# Altium footprint library Universal Device.PcbLib: 24 footprints (part 2 of 2)
Each footprint in its own frame and in the unit in brackets; x right, y up, seen from the top. Pads: shape width x height; smd on the part's side, far side on the other; paste and mask are expansions set on the pad; w line width, h text height; cw(c..) or ccw(c..) is an arc to the next point about the centre after c.
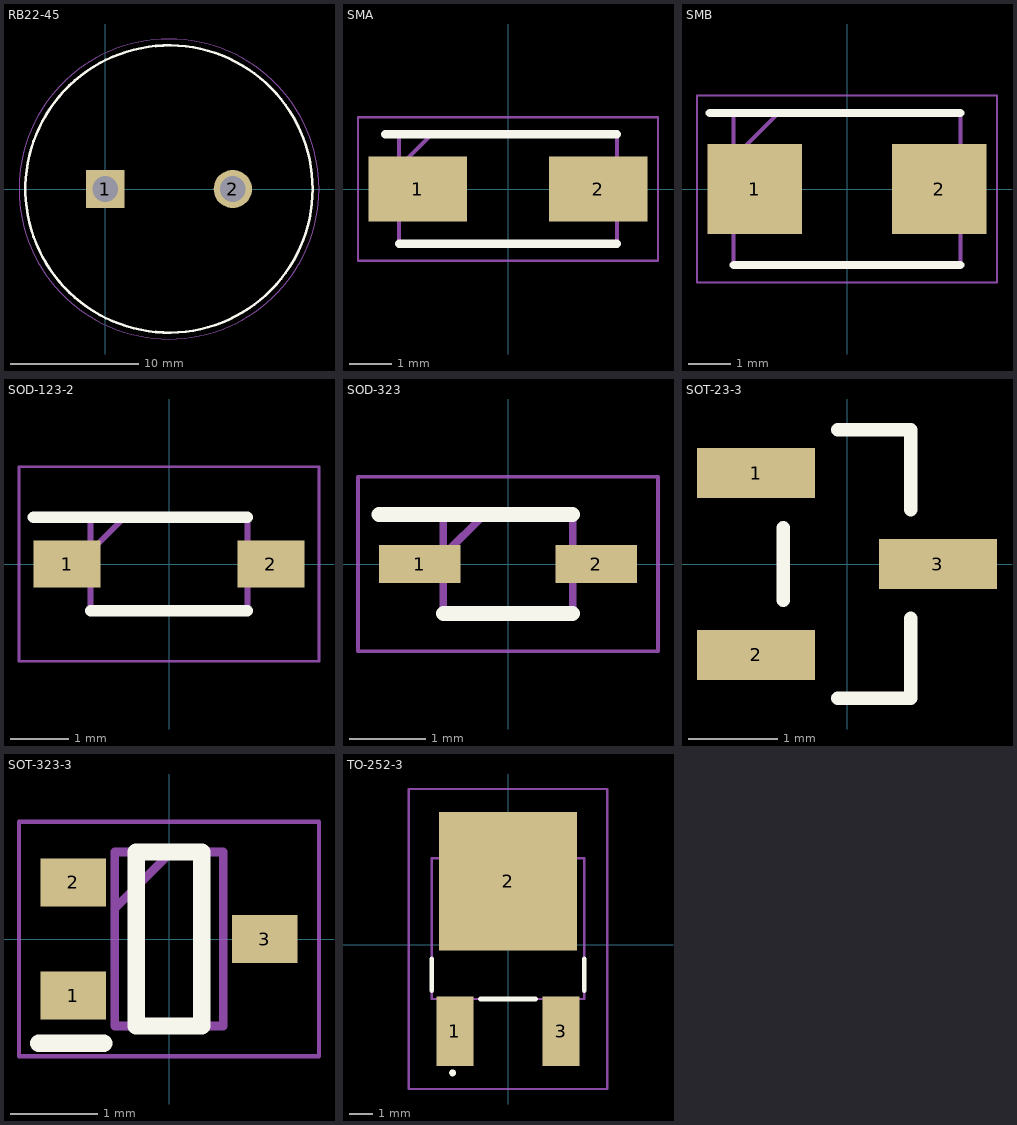
[diagram p1: the footprints below, top view; thin cyan lines are the x and y axes]

## RB22-45 [mm]
pads (2):
  rect 3x3 hole 2: 1(0,0)
  round 3 hole 2: 2(10,0)
Top Overlay:
  circle w0.2: c5,0 r11.25
Mechanical 13:
  circle w0.1: c5,0 r11.25
Mechanical 15:
  circle w0.05: c5,0 r11.75
3D body "ESMQ451VSN221MP45S.stp": height 47, standoff -10, extent -6.5,-11.494 16.5,11.494

## SMA [mm]
pads (2):
  rect 2.35x1.55 smd: 1(-2.15,0) 2(2.15,0)
Top Overlay:
  lines w0.2: -2.925,1.302 2.598,1.302 ; -2.598,-1.302 2.598,-1.302
Mechanical 13:
  lines w0.1: -2.598,0.528 -1.822,1.302 ; -2.598,-1.302 2.598,-1.302 2.598,1.302 -2.598,1.302 -2.598,-1.302
Mechanical 15:
  lines w0.05: -3.575,-1.71 3.575,-1.71 3.575,1.71 -3.575,1.71 -3.575,-1.71
3D body "ES1A-13-F.stp": height 2.4, standoff 0, extent -2.598,-1.302 2.598,1.302

## SMB [mm]
pads (2):
  rect 2.25x2.15 smd: 1(-2.2,0) 2(2.2,0)
Top Overlay:
  lines w0.2: -3.275,1.812 2.702,1.812 ; -2.702,-1.812 2.702,-1.812
Mechanical 13:
  lines w0.1: -2.702,0.738 -1.628,1.812 ; -2.702,-1.812 2.702,-1.812 2.702,1.812 -2.702,1.812 -2.702,-1.812
Mechanical 15:
  lines w0.05: -3.575,-2.225 3.575,-2.225 3.575,2.225 -3.575,2.225 -3.575,-2.225
3D body "MURS160T3G.stp": height 2.47, standoff 0, extent -2.702,-1.813 2.702,1.813

## SOD-123-2 [mm]
pads (2):
  rect 1.15x0.8 smd: 1(-1.75,0) 2(1.75,0)
Top Overlay:
  lines w0.2: -2.325,0.8 1.345,0.8 ; -1.345,-0.8 1.345,-0.8
Mechanical 13:
  lines w0.1: -1.345,0.225 -0.77,0.8 ; -1.345,-0.8 -1.345,0.8 1.345,0.8 1.345,-0.8 -1.345,-0.8
Mechanical 15:
  lines w0.05: -2.575,-1.67 -2.575,1.67 2.575,1.67 2.575,-1.67 -2.575,-1.67
3D body "SZMMSZ4713T1G.stp": height 1.35, standoff 0, extent -1.855,-0.8 1.855,0.8

## SOD-323 [mm]
pads (2):
  rect 1.075x0.5 smd: 1(-1.162,0) 2(1.162,0)
Top Overlay:
  lines w0.2: -1.7,0.65 0.85,0.65 ; -0.85,-0.65 0.85,-0.65
Mechanical 13:
  lines w0.1: -0.85,0.112 -0.312,0.65 ; -0.85,-0.65 -0.85,0.65 0.85,0.65 0.85,-0.65 -0.85,-0.65
Mechanical 15:
  lines w0.05: -1.975,-1.15 -1.975,1.15 1.975,1.15 1.975,-1.15 -1.975,-1.15
3D body "1N4148WS-7-F.stp": height 1.2, standoff 0, extent -1.25,-0.65 1.25,0.65

## SOT-23-3 [mil]
pads (3):
  rect 52x22 smd: 1(-40,40) 2(-40,-40) 3(40,0)
Top Overlay:
  lines w6: -28,-16 -28,16 ; -4,-59 28,-59 28,-24 ; -4,59 12,59 28,59 28,24
3D body "TMAG5123C1CEDBZRQ1.stp": height 39.57, standoff 0, extent -50,-57.48 50,57.48

## SOT-323-3 [mm]
pads (3):
  rect 0.75x0.55 smd: 1(-1.1,-0.65) 2(-1.1,0.65) 3(1.1,0)
Top Overlay:
  lines w0.2: -1.5,-1.2 -0.75,-1.2 ; -0.375,-1 0.375,-1 0.375,1 -0.375,1 -0.375,-1
Mechanical 13:
  lines w0.1: -0.625,0.35 0.025,1 ; -0.625,-1 0.625,-1 0.625,1 -0.625,1 -0.625,-1
Mechanical 15:
  lines w0.05: -1.725,-1.35 1.725,-1.35 1.725,1.35 -1.725,1.35 -1.725,-1.35
3D body "BSS214NW_H6327.stp": height 1, standoff 0, extent -1.05,-1 1.05,1

## TO-252-3 [mm]
pads (3):
  rect 1.6x3 smd: 1(-2.3,-3.75) 3(2.3,-3.75)
  rect 6x6 smd: 2(0,2.75)
Top Overlay:
  lines w0.2: -3.3,-2 -3.3,-0.6 ; -1.2,-2.35 1.2,-2.35 ; 3.3,-2 3.3,-0.6 ; -2.4,-5.6 ccw(c-2.4,-5.55) -2.4,-5.5 ; -2.4,-5.6 cw(c-2.4,-5.55) -2.4,-5.5 ; -2.4,-5.6 ccw(c-2.4,-5.55) -2.4,-5.5
Mechanical 13:
  lines w0.1: -3.3,-2.35 3.3,-2.35 3.3,3.75 -3.3,3.75 -3.3,-2.35
Mechanical 15:
  lines w0.1: -4.3,-6.25 4.3,-6.25 4.3,6.75 -4.3,6.75 -4.3,-6.25
3D body "RBQ10BGE10ATL.stp": height 2.5, standoff 0, extent -3.3,-5.09 3.3,5.15